# Altium footprint library TMC4671-EVAL_V1_2.PcbLib: 21 footprints (part 2 of 2)
Each footprint in its own frame and in the unit in brackets; x right, y up, seen from the top. Pads: shape width x height; smd on the part's side, far side on the other; paste and mask are expansions set on the pad; w line width, h text height; cw(c..) or ccw(c..) is an arc to the next point about the centre after c.
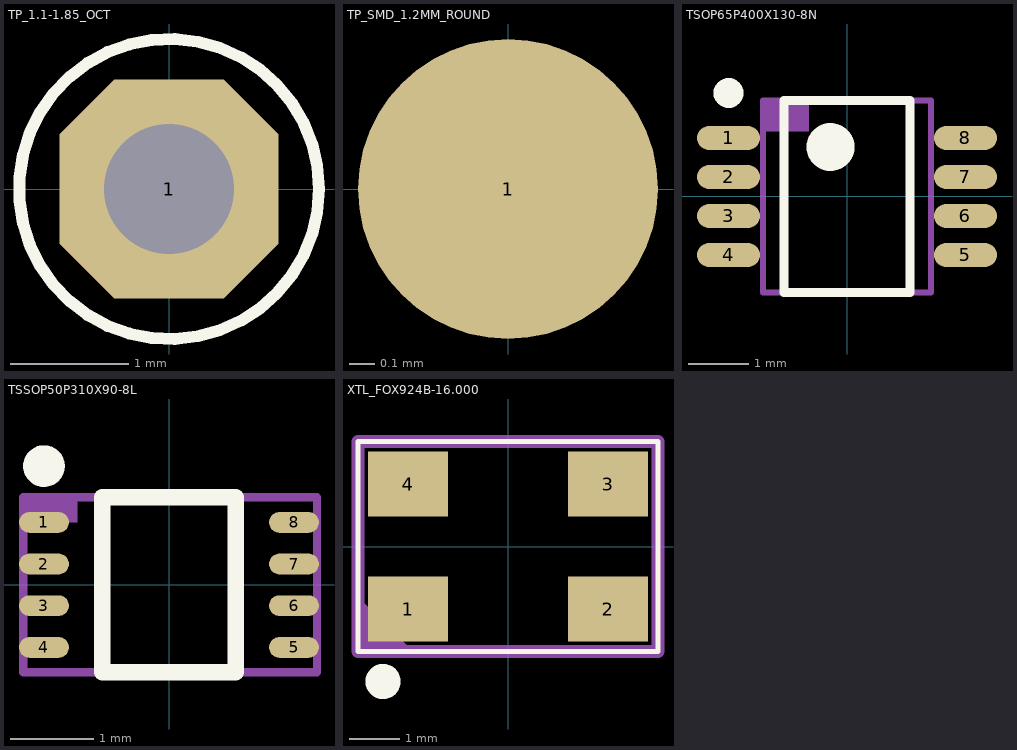
[diagram p1: the footprints below, top view; thin cyan lines are the x and y axes]

## TP_1.1-1.85_OCT [mm]
pads (1):
  oct 1.85x1.85 hole 1.1: 1(0,0)
Top Overlay:
  circle w0.1: c0,0 r1.27

## TP_SMD_1.2MM_ROUND [mm]
pads (1):
  rrect100% 1.2x1.2 smd: 1(0,0)

## TSOP65P400X130-8N [mm] "TSOP, 8-Leads, Body 2,95x2,80mm, Pitch 0,65mm, IPC Medium Density"
height 1.3
pads (8):
  oval 1.05x0.4 smd: 1(-1.975,0.975) 2(-1.975,0.325) 3(-1.975,-0.325) 4(-1.975,-0.975) 5(1.975,-0.975) 6(1.975,-0.325) 7(1.975,0.325) 8(1.975,0.975)
Top Overlay:
  circle w0.25: c-1.975,1.725 r0.125
  circle w0.4: c-0.275,0.825 r0.2
  lines w0.15: -1.05,-1.6 -1.05,1.6 1.05,1.6 1.05,-1.6 -1.05,-1.6
TopAsm:
  region: -1.397,1.6 -1.397,1.091 -0.635,1.091 -0.635,1.599
  lines w0.1: -1.397,-1.6 1.397,-1.6 1.397,1.6 -1.397,1.6 -1.397,-1.6
  text ".Designator" at 0.451,-1.236 h1
3D body "TSOP65P400X130-8N.step": height 1.3, standoff 0, extent -2,-1.6 2,1.6

## TSSOP50P310X90-8L [mm] "TSSOP, 8-Leads, Body 2,00x2,30mm, Pitch 0,50mm, IPC High Density"
height 0.9
pads (8):
  oval 0.6x0.25 smd: 1(-1.5,0.75) 2(-1.5,0.25) 3(-1.5,-0.25) 4(-1.5,-0.75) 5(1.5,-0.75) 6(1.5,-0.25) 7(1.5,0.25) 8(1.5,0.75)
Top Overlay:
  circle w0.25: c-1.5,1.425 r0.125
  lines w0.2: -0.8,-1.05 0.8,-1.05 0.8,1.05 -0.8,1.05 -0.8,-1.05
TopAsm:
  region: -1.75,1.05 -1.75,0.75 -1.1,0.75 -1.1,1.05
  lines w0.1: -1.75,-1.05 -1.75,1.05 1.775,1.05 1.775,-1.05 -1.75,-1.05
  text ".Designator" at 0.324,-0.982 h1
3D body "TSSOP50P310X90-8L.step": height 0.9, standoff 0, extent -1.549,-1.05 1.549,1.05

## XTL_FOX924B-16.000 [mm]
pads (4):
  rect 1.6x1.3 smd: 1(-2,-1.25) 2(2,-1.25) 3(2,1.25) 4(-2,1.25)
Top Overlay:
  circle w0.5: c-2.5,-2.7 r0.1
  lines w0.1: -3,-2.1 -3,0.1 -3,2.1 3,2.1 3,-2.1 -3,-2.1
TopAsm:
  region: -3,-2.1 -3,-1 -1.9,-2.1
  lines w0.254: -3,-2.1 -3,0 -3,2.1 0,2.1 3,2.1 3,0 3,-2.1 0,-2.1 -3,-2.1
3D body: height 1.5, standoff 0, extent -2.6,-1.7 2.6,1.7